# Altium footprint library Notecarrier AF.PcbLib: 40 footprints (part 1 of 3)
Each footprint in its own frame and in the unit in brackets; x right, y up, seen from the top. Pads: shape width x height; smd on the part's side, far side on the other; paste and mask are expansions set on the pad; w line width, h text height; cw(c..) or ccw(c..) is an arc to the next point about the centre after c.
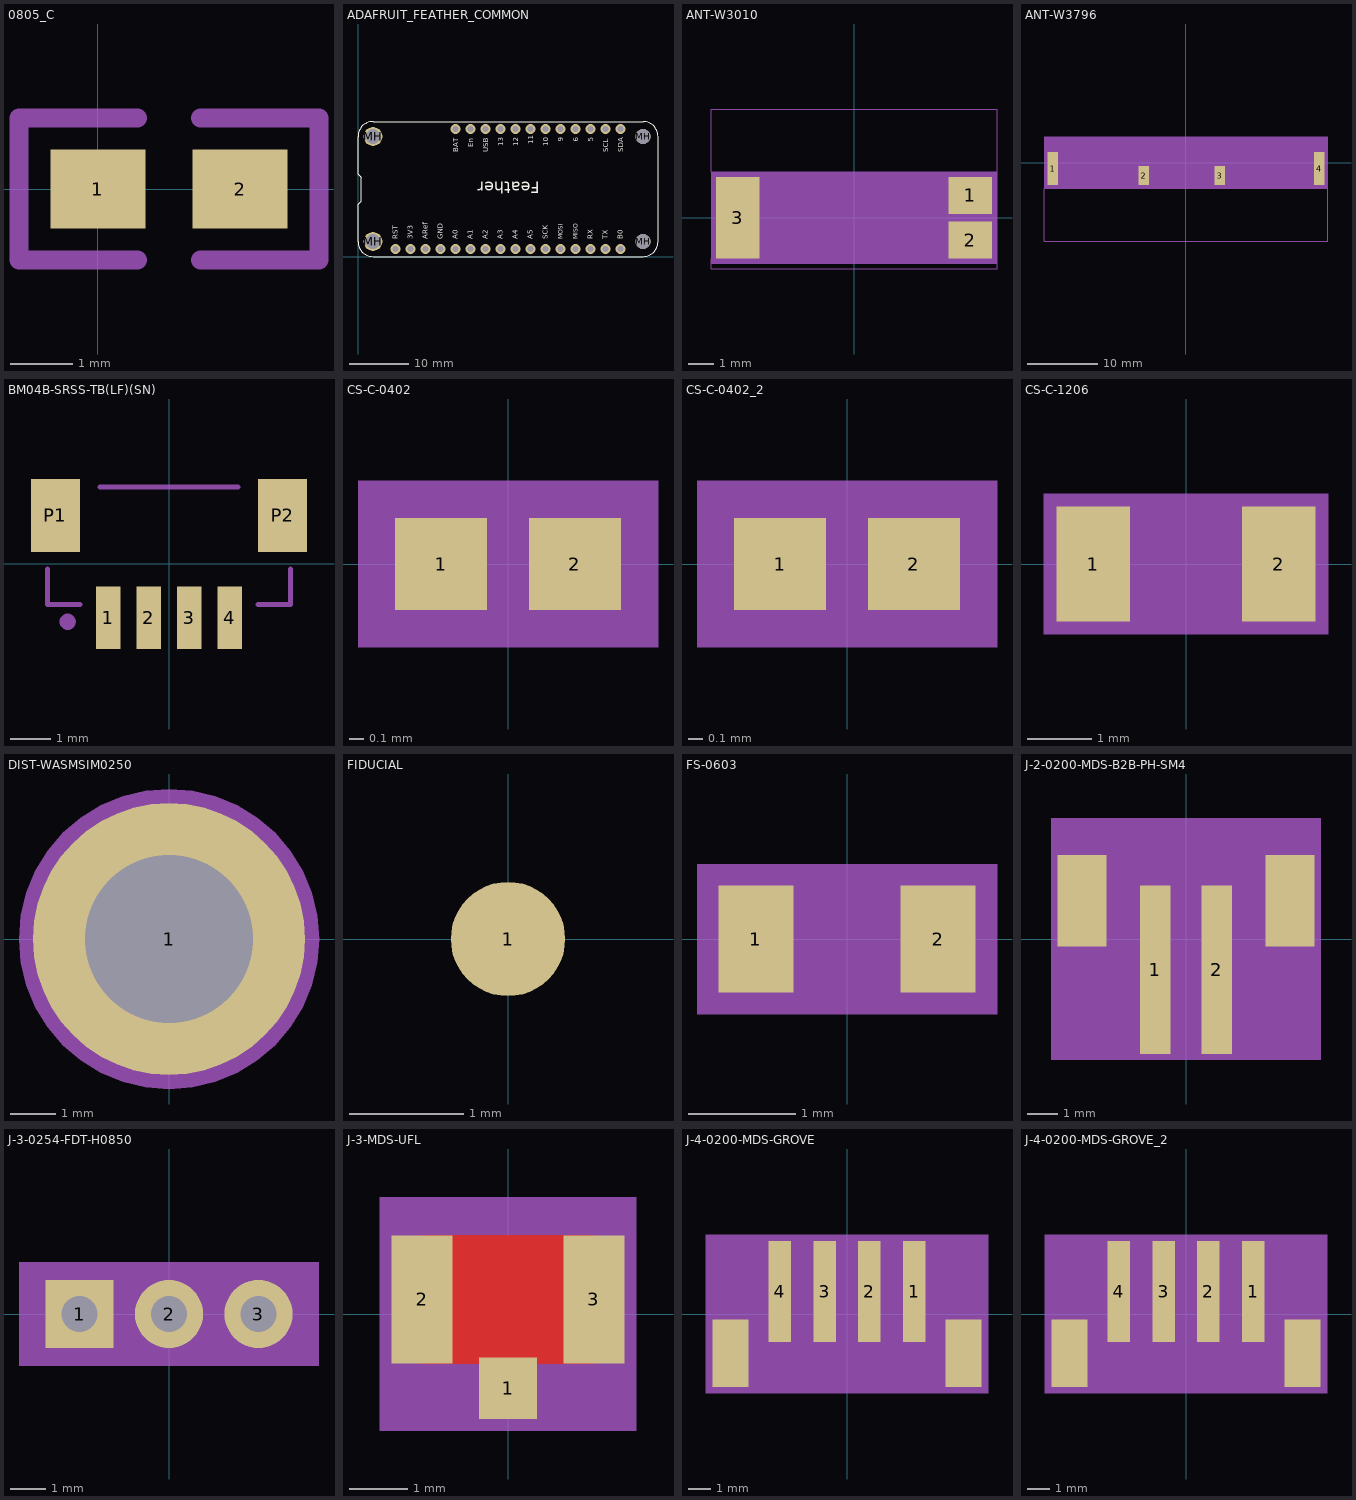
[diagram p0: the footprints below, top view; thin cyan lines are the x and y axes]

## 0805_C [mil]
pads (2):
  rect 60x50 smd: 1(0,0) 2(90,0)
Mechanical 5:
  lines w12: 25,-45 -50,-45 -50,45 25,45 ; 65,-45 140,-45 140,45 65,45

## ADAFRUIT_FEATHER_COMMON [mil] "Common (Typical) Feather Footprint"
height 23.62
pads (32):
  round 66 / inner round 0 / far side round 66 hole 39.37: J1.1(250,50) J1.2(350,50) J1.3(450,50) J1.4(550,50) J1.5(650,50) J1.6(750,50) J1.7(850,50) J1.8(950,50) J1.9(1050,50) J1.10(1150,50) J1.11(1250,50) J1.12(1350,50) J1.13(1450,50) J1.14(1550,50) J1.15(1650,50) J1.16(1750,50)
  round 66 hole 39.37: J3.1(650,850) J3.2(750,850) J3.3(850,850) J3.4(950,850) J3.5(1050,850) J3.6(1150,850) J3.7(1250,850) J3.8(1350,850) J3.9(1450,850) J3.10(1550,850) J3.11(1650,850) J3.12(1750,850)
  round 125.98 / inner round 0 / far side round 125.98 hole 98.43 unplated: MH(100,100) MH(100,800)
  round 100 hole 100 unplated: MH(1900,100) MH(1900,800)
Top Overlay:
  lines w7.87: 0,100 ccw(c100,100) 100,0 1900,0 ccw(c1900,100) 2000,100 2000,800 ccw(c1900,800) 1900,900 100,900 ccw(c100,800) 0,800 0,550 20,530 20,370 0,350 0,100
  text "RST" at 265,114.36 h34
  text "A3" at 965,114.36 h34
  text "GND" at 565,114.36 h34
  text "TX" at 1665,114.36 h34
  text "B0" at 1765,114.36 h34
  text "MISO" at 1465,114.36 h29.75
  text "MOSI" at 1365,114.36 h29.75
  text "A5" at 1165,114.36 h34
  text "A4" at 1065,114.36 h34
  text "A2" at 865,114.36 h34
  text "A0" at 665,114.36 h34
  text "ARef" at 465,114.36 h34
  text "3V3" at 365,114.36 h34
  text "RX" at 1565,114.36 h34
  text "SCK" at 1265,114.36 h34
  text "A1" at 765,114.36 h34
  text "5" at 1567.14,763.75 h34
  text "BAT" at 667.14,695.77 h34
  text "SCL" at 1667.14,695.77 h34
  text "SDA" at 1767.14,695.77 h34
  text "6" at 1467.14,763.75 h34
  text "13" at 967.14,735.42 h34
  text "12" at 1067.14,735.42 h34
  text "USB" at 867.14,695.77 h34
  text "En" at 767.14,729.76 h34
  text "9" at 1367.14,763.75 h34
  text "10" at 1267.14,735.42 h34
  text "11" at 1167.14,746.75 h34
  text "Feather" at 1212.5,498.61 h78.74
3D body "10118192-0002.stp": height 286.46, standoff 177.6, extent 1.18,294.24 200,605.76
3D body: height 162, standoff 100, extent 0,0 2000,900

## ANT-W3010 [mm]
pads (3):
  rect 1.7x1.45 smd: 1(4.55,0.875) 2(4.55,-0.875)
  rect 1.7x3.2 smd: 3(-4.55,0)
Top 3D Body:
  region: -5.6,1.8 5.6,1.8 5.6,-1.8 -5.6,-1.8
Mechanical 19:
  text "3" at -4.55,-0.08 h0.2
  text "1" at 4.55,0.795 h0.2
  text "2" at 4.55,-0.955 h0.2
Top Assembly:
  pour cut-out: -5.4,-1.6 -5.4,1.6 5.4,1.6 5.4,-1.6
  dashed: -5.6,1.8 5.6,1.8 5.6,-1.8 -5.6,-1.8
  lines w0.025: -5.6,-1.6 -5.6,-2 5.6,-2 5.6,-1.6 ; -5.6,1.8 -5.6,2 -5.6,4.25 5.6,4.25 5.6,0.2
  text "KEEPOUT" at 3.4,3.4 h0.8
3D body "ANT-W3010.stp": height 2, standoff 0, extent -4.975,-1.575 5.025,1.575

## ANT-W3796 [mm]
pads (4):
  rect 1.5x4.72 smd: 1(-19,-0.84) 4(19,-0.84)
  rect 1.5x2.72 smd: 2(-6,-1.84) 3(4.8,-1.84)
Top 3D Body:
  region: -20.2,3.7 -20.2,-3.7 20.2,-3.7 20.2,3.7
Mechanical 19:
  text "1" at -19.08,-0.84 h0.2
  text "2" at -6.08,-1.84 h0.2
  text "3" at 4.72,-1.84 h0.2
  text "4" at 18.92,-0.84 h0.2
Top Assembly:
  pour cut-out: -20,-3.5 -20,3.5 20,3.5 20,-3.5
  dashed: -20.2,3.7 20.2,3.7 20.2,-3.7 -20.2,-3.7
  lines w0.025: -20.2,-3.7 -20.2,-5.11 -20.2,-11.2 20.2,-11.2 20.2,-5.11 20.2,-3.7
  text "KEEPOUT AREA" at -5.1,-6.2 h0.8
  text "SEE DATASHEET FOR TUNING PLACEMENT" at -17.3,-7.8 h0.8
3D body "ANT-W3796.stp": height 3, standoff 0, extent -20,-3.475 20,3.525

## BM04B-SRSS-TB(LF)(SN) [mm] "BM04B-SRSS-TB"
pads (6):
  rect 0.6x1.55 smd: 1(-1.5,-1.325) 2(-0.5,-1.325) 3(0.5,-1.325) 4(1.5,-1.325)
  rect 1.2x1.8 smd: P1(-2.8,1.2) P2(2.8,1.2)
Mechanical 5:
  circle w0.2: c-2.5,-1.425 r0.1
  lines w0.127: -3,-0.125 -3,-1 -2.2,-1 ; -1.7,1.9 1.7,1.9 ; 2.2,-1 3,-1 3,-0.125

## CS-C-0402 [mm]
pads (2):
  rect 0.62x0.62 smd: 1(-0.45,0) 2(0.45,0)
Mechanical 19:
  text "1" at -0.45,-0.08 h0.2
  text "2" at 0.45,-0.08 h0.2
Top Assembly:
  pour cut-out: 0.81,-0.36 -0.81,-0.36 -0.81,0.36 0.81,0.36
  dashed: -1.01,-0.56 -1.01,0.56 1.01,0.56 1.01,-0.56
3D body "CS-C-0402.stp": height 0.36, standoff 0, extent -0.5,-0.265 0.5,0.265

## CS-C-0402_2 [mm]
pads (2):
  rect 0.62x0.62 smd: 1(-0.45,0) 2(0.45,0)
Mechanical 19:
  text "1" at -0.45,-0.08 h0.2
  text "2" at 0.45,-0.08 h0.2
Top Assembly:
  pour cut-out: 0.81,-0.36 -0.81,-0.36 -0.81,0.36 0.81,0.36
  dashed: -1.01,-0.56 -1.01,0.56 1.01,0.56 1.01,-0.56
3D body "CS-C-0402.stp": height 0.36, standoff 0, extent -0.5,-0.265 0.5,0.265

## CS-C-1206 [mm]
pads (2):
  rect 1.15x1.8 smd: 1(-1.45,0) 2(1.45,0)
Mechanical 19:
  text "2" at 1.383,-0.089 h0.2
  text "1" at -1.511,-0.083 h0.2
Top Assembly:
  dashed: -2.225,1.1 2.225,1.1 2.225,-1.1 -2.225,-1.1
  pour cut-out: -2.025,-0.9 -2.025,0.9 2.025,0.9 2.025,-0.9
3D body "CS-C-1206.stp": height 1.6, standoff 0, extent -1.6,-0.8 1.6,0.8

## DIST-WASMSIM0250 [mm]
pads (1):
  round 6 / inner round 1.524 / far side round 6 hole 3.7: 1(0,0)
Top Paste:
  drawing of 4 lines, arcs and shapes, not listed
Top 3D Body:
  region: 0,3.31 -0.518,3.269 -1.023,3.148 -1.503,2.949 -1.946,2.678 -2.341,2.341 -2.678,1.946 -2.949,1.503 -3.148,1.023 -3.269,0.518 -3.31,0 -3.269,-0.518 -3.148,-1.023 -2.949,-1.503 -2.859,-1.651 -2.678,-1.946 -2.341,-2.341 -1.946,-2.678 -1.503,-2.949 -1.023,-3.148 -0.518,-3.269 0,-3.31 0.518,-3.269 1.023,-3.148 1.503,-2.949 1.946,-2.678 2.341,-2.341 2.678,-1.946 2.859,-1.651 2.949,-1.503 3.148,-1.023 3.269,-0.518 3.31,0 3.269,0.518 3.148,1.023 2.949,1.503 2.678,1.946 2.341,2.341 1.946,2.678 1.503,2.949 1.023,3.148 0.518,3.269
Mechanical 19:
  text "1" at 0,-0.08 h0.2
Top Assembly:
  dashed: 0,3.31 -0.518,3.269 -1.023,3.148 -1.503,2.949 -1.946,2.678 -2.341,2.341 -2.678,1.946 -2.949,1.503 -3.148,1.023 -3.269,0.518 -3.31,0 -3.269,-0.518 -3.148,-1.023 -2.949,-1.503 -2.859,-1.651 -2.678,-1.946 -2.341,-2.341 -1.946,-2.678 -1.503,-2.949 -1.023,-3.148 -0.518,-3.269 0,-3.31 0.518,-3.269 1.023,-3.148 1.503,-2.949 1.946,-2.678 2.341,-2.341 2.678,-1.946 2.859,-1.651 2.949,-1.503 3.148,-1.023 3.269,-0.518 3.31,0 3.269,0.518 3.148,1.023 2.949,1.503 2.678,1.946 2.341,2.341 1.946,2.678 1.503,2.949 1.023,3.148 0.518,3.269
  pour cut-out: 0,3.11 -0.486,3.071 -0.961,2.957 -1.412,2.771 -1.828,2.516 -2.199,2.199 -2.516,1.828 -2.771,1.412 -2.957,0.961 -3.071,0.486 -3.11,0 -3.071,-0.486 -2.957,-0.961 -2.771,-1.412 -2.686,-1.551 -2.516,-1.828 -2.199,-2.199 -1.828,-2.516 -1.412,-2.771 -0.961,-2.957 -0.486,-3.071 0,-3.11 0.486,-3.071 0.961,-2.957 1.412,-2.771 1.828,-2.516 2.199,-2.199 2.516,-1.828 2.686,-1.551 2.771,-1.412 2.957,-0.961 3.071,-0.486 3.11,0 3.071,0.486 2.957,0.961 2.771,1.412 2.516,1.828 2.199,2.199 1.828,2.516 1.412,2.771 0.961,2.957 0.486,3.071
3D body "DIST-WASMSIM0250.stp": height 2.5, standoff -1.4, extent -2.55,-2.55 2.55,2.55

## FIDUCIAL [mm]
pads (1):
  round 1 smd: 1(0,0)
Top Solder:
  region: 1.311,0 1.267,0.339 1.136,0.656 0.927,0.927 0.656,1.136 0.339,1.267 0,1.311 -0.339,1.267 -0.656,1.136 -0.927,0.927 -1.136,0.656 -1.267,0.339 -1.311,0 -1.267,-0.339 -1.136,-0.656 -0.927,-0.927 -0.656,-1.136 -0.339,-1.267 0,-1.311 0.339,-1.267 0.656,-1.136 0.927,-0.927 1.136,-0.656 1.267,-0.339
  dashed: 1.311,0 1.267,0.339 1.136,0.656 0.927,0.927 0.656,1.136 0.339,1.267 0,1.311 -0.339,1.267 -0.656,1.136 -0.927,0.927 -1.136,0.656 -1.267,0.339 -1.311,0 -1.267,-0.339 -1.136,-0.656 -0.927,-0.927 -0.656,-1.136 -0.339,-1.267 0,-1.311 0.339,-1.267 0.656,-1.136 0.927,-0.927 1.136,-0.656 1.267,-0.339
Mechanical 19:
  text "1" at -0.08,0 h0.2

## FS-0603 [mm]
pads (2):
  rect 0.7x1 smd: 1(-0.85,0) 2(0.85,0)
Mechanical 19:
  text "1" at -0.85,0.08 h0.2
  text "2" at 0.85,0.08 h0.2
Top Assembly:
  dashed: -1.4,-0.7 -1.4,0.7 1.4,0.7 1.4,-0.7
  pour cut-out: 1.2,-0.5 -1.2,-0.5 -1.2,0.5 1.2,0.5
3D body "FS-0603.stp": height 0.86, standoff 0, extent -0.8,-0.43 0.8,0.43

## J-2-0200-MDS-B2B-PH-SM4 [mm]
pads (4):
  rect 1x5.5 smd: 1(-1,-1) 2(1,-1)
  rect 1.6x3 smd: ""(-3.4,1.25) ""(3.4,1.25)
Top 3D Body:
  region: -4.4,3.95 4.4,3.95 4.4,-3.95 -4.4,-3.95
Mechanical 26:
  text "2" at 1,-1.08 h0.2
  text "1" at -1,-1.08 h0.2
Top Assembly:
  dashed: -4.4,3.95 4.4,3.95 4.4,-3.95 -4.4,-3.95
  pour cut-out: -4.2,-3.75 -4.2,3.75 4.2,3.75 4.2,-3.75
  text "1" at -1.273,2.173 h0.4
3D body "J-2-0200-MDS-B2B-PH-SM4.stp": height 9.23, standoff 0.6, extent -3.943,-3.164 4.007,3.836

## J-3-0254-FDT-H0850 [mm]
height 0.6
pads (3):
  rect 1.94x1.94 / inner round 0 / far side rect 1.94x1.94 hole 1.02: 1(-2.54,0)
  round 1.94 / inner round 0 / far side round 1.94 hole 1.02: 2(0,0) 3(2.54,0)
Top 3D Body:
  region: -4.26,1.47 -4.26,-1.47 4.26,-1.47 4.26,1.47
Mechanical 26:
  text "3" at 2.644,0.067 h0.2
  text "2" at 0.092,0.064 h0.2
  text "1" at -2.436,0.067 h0.2
Top Assembly:
  pour cut-out: -3.61,-1.07 -3.61,1.07 -1.47,1.07 -1.47,-1.07
  pour cut-out: -1.27,-1.27 -1.27,1.27 4.06,1.27 4.06,-1.27
  dashed: -4.26,-1.47 -4.26,1.47 4.26,1.47 4.26,-1.47
  text "1" at -5.16,-0.41 h1
3D body "J-3-0254-FDT-H0850.stp": height 8.5, standoff -3.2, extent -4.06,-1.27 4.06,1.27

## J-3-MDS-UFL [mm]
pads (3):
  rect 1x1.05 smd: 1(0,-1.275)
  rect 1.05x2.2 smd: 2(-1.475,0.25) 3(1.475,0.25)
Top Layer:
  pour cut-out: -1.475,-0.85 1.475,-0.85 1.475,1.35 -1.475,1.35
Top 3D Body:
  region: -2.2,-2 -2.2,2 2.2,2 2.2,-2
Mechanical 19:
  text "1" at 0,-1.195 h0.2
  text "2" at -1.475,0.33 h0.2
  text "3" at 1.475,0.33 h0.2
Top Assembly:
  dashed: -2.2,-2 -2.2,2 2.2,2 2.2,-2
  pour cut-out: 2,-1.8 -2,-1.8 -2,1.8 2,1.8
3D body "J-3-MDS-UFL.stp": height 2.48, standoff -0.01, extent -1.523,-1.304 1.486,9.786

## J-4-0200-MDS-GROVE [mm]
height 0.6
pads (6):
  rect 1x4.5 smd: 1(3,1) 2(1,1) 3(-1,1) 4(-3,1)
  rect 1.6x3 smd: ""(-5.2,-1.75) ""(5.2,-1.75)
Top 3D Body:
  region: -6.3,3.55 -6.3,-3.55 6.3,-3.55 6.3,3.55
Mechanical 26:
  text "1" at 3.08,1 h0.2
  text "2" at 1.08,1 h0.2
  text "3" at -0.92,1 h0.2
  text "4" at -2.92,1 h0.2
Top Assembly:
  dashed: 6.3,-3.55 6.3,3.55 -6.3,3.55 -6.3,-3.55
  pour cut-out: -6.1,-3.35 -6.1,3.35 6.1,3.35 6.1,-3.35
  text "1" at 4.793,2.925 h0.4
3D body "J-4-0200-MDS-GROVE.stp": height 8, standoff 0, extent -6,-3.175 6,3.2

## J-4-0200-MDS-GROVE_2 [mm]
pads (6):
  rect 1x4.5 smd: 1(3,1) 2(1,1) 3(-1,1) 4(-3,1)
  rect 1.6x3 smd: ""(-5.2,-1.75) ""(5.2,-1.75)
Top 3D Body:
  region: -6.3,3.55 -6.3,-3.55 6.3,-3.55 6.3,3.55
Mechanical 26:
  text "4" at -2.92,1 h0.2
  text "3" at -0.92,1 h0.2
  text "2" at 1.08,1 h0.2
  text "1" at 3.08,1 h0.2
Top Assembly:
  pour cut-out: -6.1,-3.35 -6.1,3.35 6.1,3.35 6.1,-3.35
  dashed: 6.3,-3.55 6.3,3.55 -6.3,3.55 -6.3,-3.55
  text "1" at 4.793,2.925 h0.4
3D body "J-4-0200-MDS-GROVE.stp": height 8, standoff 0, extent -6,-3.175 6,3.2